# EAGLE library part DS07 (library misc)
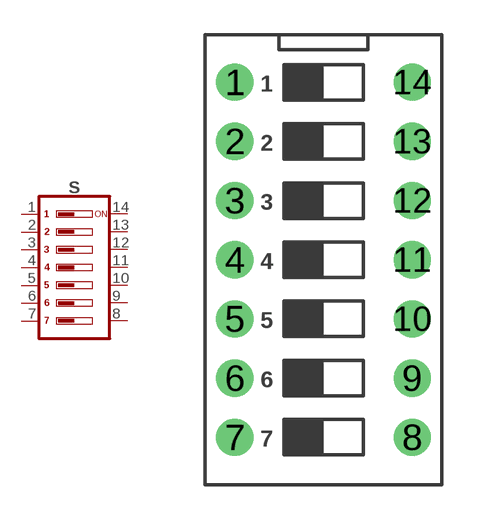
[diagram p63: symbol with the pads of DS-07; footprint DS-07]

Designator prefix S

## DS07 (MANF: Connfly electronic; MANF#: DS1040-07RN)  [DS-07]
1  1  pas
2  2  pas
3  3  pas
4  4  pas
5  5  pas
6  6  pas
7  7  pas
8  8  pas
9  9  pas
10  10  pas
11  11  pas
12  12  pas
13  13  pas
14  14  pas

## Footprint DS-07 (pad centres in mm)
DIL/CODE SWITCH Mors distributor Buerklin, 17G558 3D model <https://grabcad.com/library/toggle-switches-dip-2-54mm-1>
drill 0.9 pad 1.6: 1 -3.81,7.62; 2 -3.81,5.08; 3 -3.81,2.54; 4 -3.81,0; 5 -3.81,-2.54; 6 -3.81,-5.08; 7 -3.81,-7.62; 8 3.81,-7.62; 9 3.81,-5.08; 10 3.81,-2.54; 11 3.81,0; 12 3.81,2.54; 13 3.81,5.08; 14 3.81,7.62